# EAGLE library part 4CAP (library dubec)
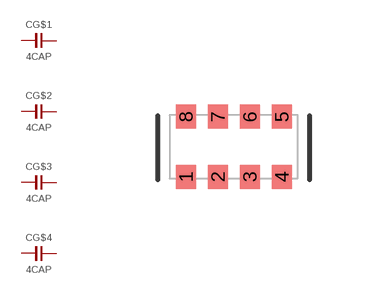
[diagram p33: symbol with the pads of 1206-QUAD; footprint 1206-QUAD]

Designator prefix C; gates G$1=CAP G$2=CAP G$3=CAP G$4=CAP

## 4CAP47N_25V (DIGIKEY_PART_#: 1276-2784-1-ND; EPK: 43.43; MANUFACTURER: Samsung Electro-Mechanics America, Inc.; MFG_PART_#: CL31B473MACNBNC; TEMP: X7R; TOLERANCE: ±20%)  [1206-QUAD]
1  G$1:1  pas
2  G$2:1  pas
3  G$3:1  pas
4  G$4:1  pas
5  G$4:2  pas
6  G$3:2  pas
7  G$2:2  pas
8  G$1:2  pas

## 4CAP100N_25V (DIGIKEY_PART_#: 1276-2741-1-ND; EPK: 48.80; MANUFACTURER: Samsung Electro-Mechanics America, Inc.; MFG_PART_#: CL31B104KACNBNC; TEMP: X7R; TOLERANCE: ±10%)  [1206-QUAD]
Pads as for 1206-QUAD

## Footprint 1206-QUAD (pad centres in mm)
smd 0.5 x 0.6: 1 -1.2,-0.75; 2 -0.4,-0.75; 3 0.4,-0.75; 4 1.2,-0.75; 5 1.2,0.75; 6 0.4,0.75; 7 -0.4,0.75; 8 -1.2,0.75